# Altium integrated library Linear Technology Power Management Switching Regulator LTC1174-LTC3901.IntLib: 2647 symbols (part 9 of 364)
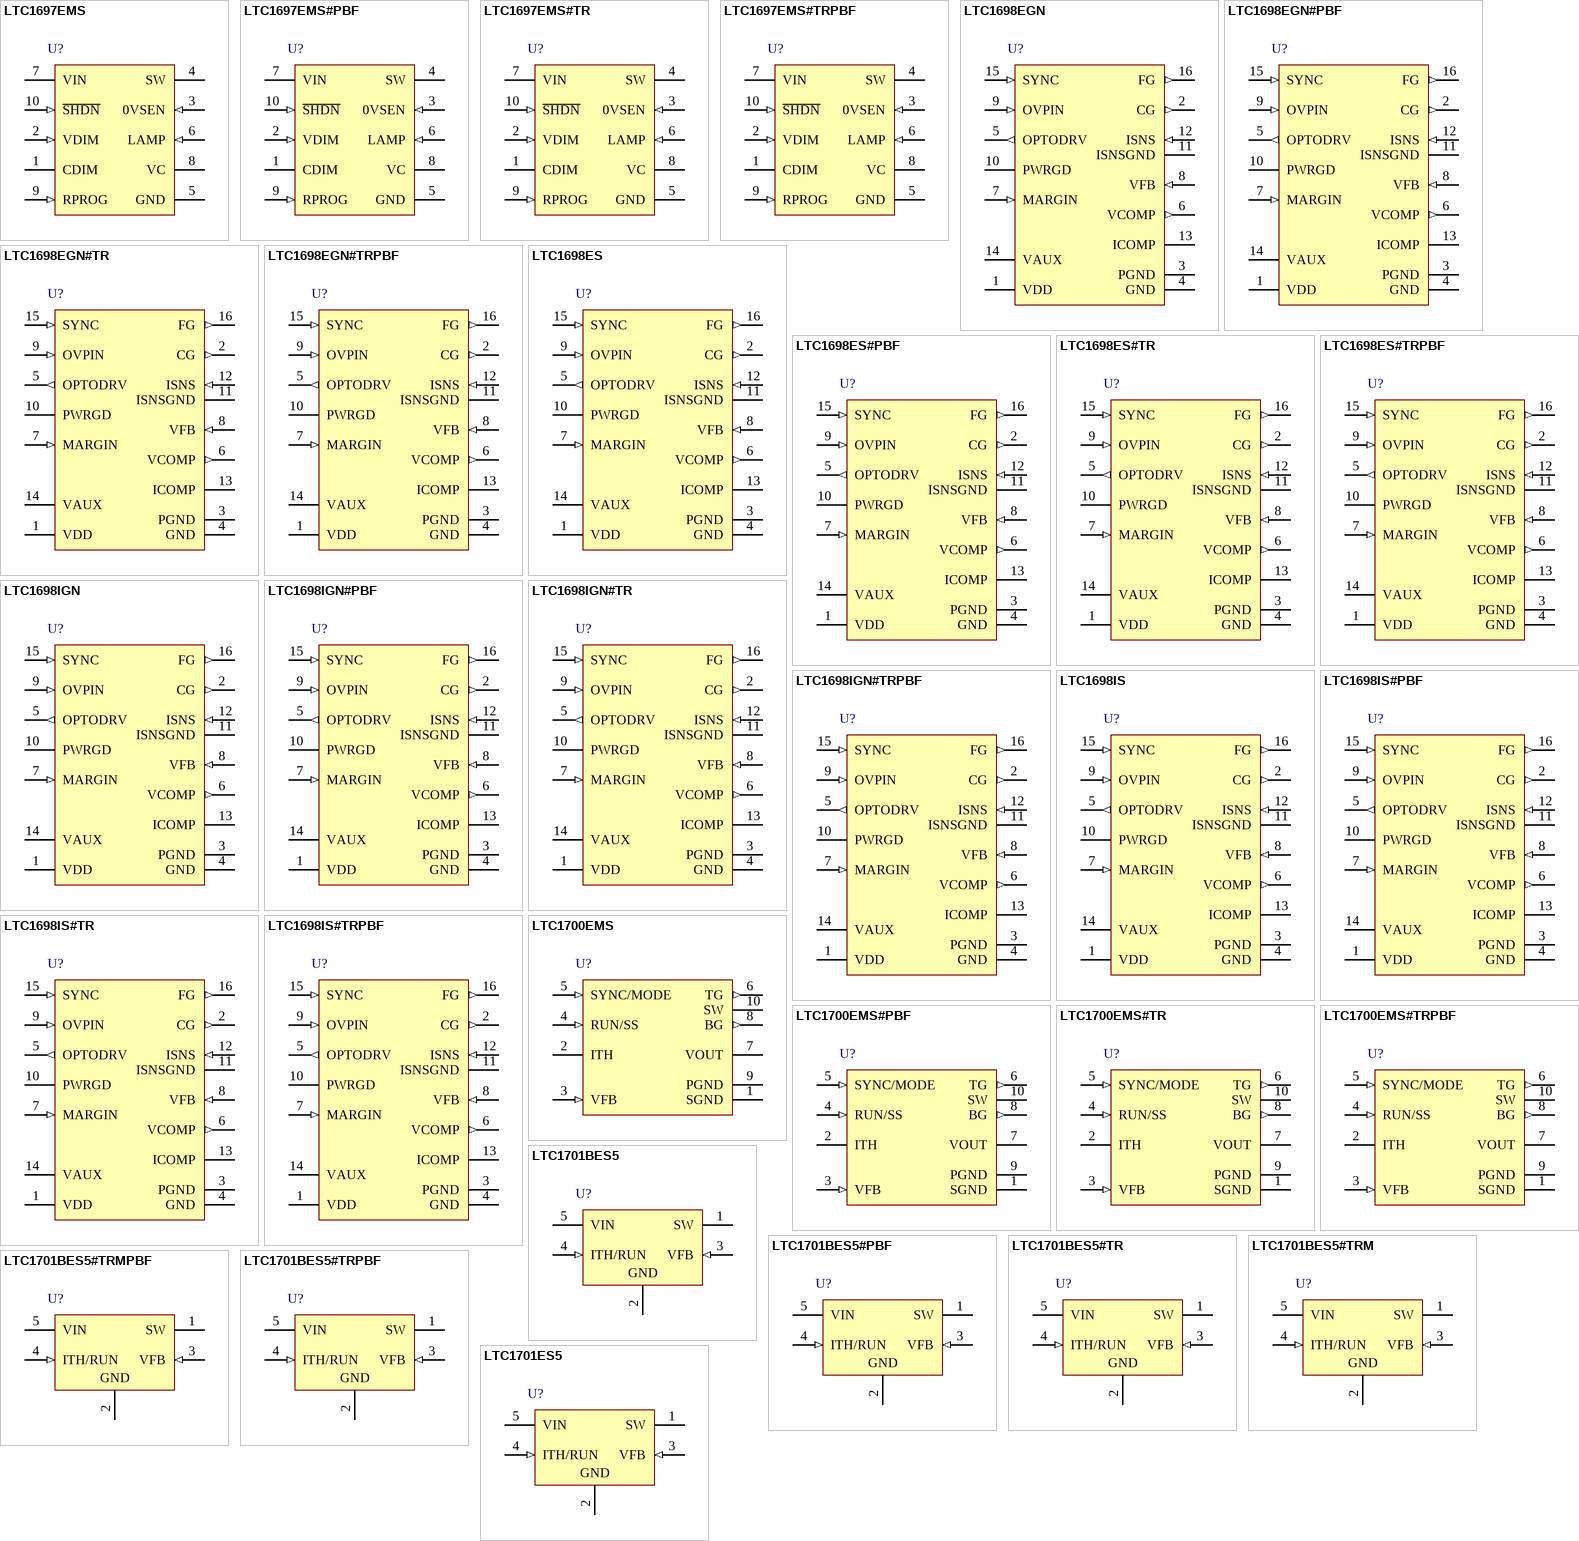
[diagram p120: symbols LTC1697EMS to LTC1701ES5]

## LTC1698EGN#PBF
designator U?
Secondary Synchronous Rectifier Controller MIN, 16-pin SOP (GN-16), -40 to 85 degC, Pb-Free; Manufacturer: Linear Technology; PartNumber: LTC1698EGN#PBF; Number of Outputs: 1; PackageVersion: Rev. B, 03/2012; PackageReference: GN-16; PackageDescription: 16-Pin Plastic SSOP, Body 4.9 x 3.9 mm, Pitch 0.635 mm; Supplier 1: Digi-Key; Supplier Part Number 1: LTC1698EGN#PBF-ND; RoHS: TRUE; Mounting Technology: Surface Mount; ComponentLink1Description: Manufacturer URL; ComponentLink1URL: http://www.linear.com/; ComponentLink2Description: Datasheet; ComponentLink2URL: http://cds.linear.com/docs/en/datasheet/1698f.pdf; ComponentLink3Description: Package Specification; ComponentLink3URL: http://cds.linear.com/docs/en/packaging/05081641_B_GN16.pdf
footprint LT-GN-16_N (SOP, 16-Leads, Body 5x4mm, Pitch 0.635mm, IPC Medium Density)
footprint LT-GN-16_L (SOP, 16-Leads, Body 5x4mm, Pitch 0.635mm, IPC High Density)
footprint LT-GN-16_M (SOP, 16-Leads, Body 5x4mm, Pitch 0.635mm, IPC Low Density)
pins: 1 VDD (power) "Power Supply Input. For isolated applications, a simple rectifier from the power transformer is used to power the chip. This pin powers the opto driver, the VAUX supply and the FG and CG drivers. An internal 5V regulator (See Datasheet)", 2 CG (out) "Catch Gate Driver. If SYNC slews positive, CG pulls high to drive an external N-channel MOSFET. CG draws power from the VDD pin and swings between VDD and PGND.", 3 PGND (power) "Power Ground. Connect PGND to a low impedance ground plane in close proximity to the ground terminal of the external current sensing resistor.", 4 GND (power) "Logic and Signal Ground. GND is referenced to the internal low power circuitry. Careful board layout techniques must be used to prevent corruption of signal ground reference. Connect GND and PGND together directly at the (See Datasheet)", 5 OPTODRV (out) "Optocoupler Driver Output. This pin drives a ground referenced optocoupler through an external resistor. If VFB is low, OPTODRV pulls low. If VFB is high, OPTODRV pulls high. This optocoupler driver has a DC gain of 5. (See Datasheet)", 6 VCOMP (out) "Error Amplifier Output. This error amplifier is able to drive more than 2kohm and 100pF of load. The internal diode connected from VFB to VCOMP reduces OPTODRV recovery time under start-up conditions.", 7 MARGIN (in) "Current Input to Adjust the Output Voltage Linearly. The MARGIN pin connects to an internal 16.5k resistor. The other end of this resistor is regulated to 1.65V. Connecting MARGIN to a 3.3V logic supply sources 100uA of (See Datasheet)", 8 VFB (in) "Feedback Voltage. VFB senses the regulated output voltage through an external resistor divider. The VFB pin is servoed to the reference voltage of 1.233V under closed-loop conditions. An RC network from VFB to VCOMP (See Datasheet)", 9 OVPIN (in) "Overvoltage Input. OVPIN is a high impedance input to an internal comparator. The threshold of this comparator is set to 1.233V. If the OVPIN potential is higher than the threshold voltage, OPTODRV pulls high immediately. (See Datasheet)", 10 PWRGD (oc) "Power Good Output. This is an opendrain output. PWRGD floats if VFB is above 94% of the nominal value for more than 2ms. PWRGD pulls low if VFB is below 94% of the nominal value for more than 1ms. The PWRGD threshold is (See Datasheet)", 11 ISNSGND (power) "Current Sense Ground. Connect to the positive side of the sense resistor, normally grounded.", 12 ISNS (in) "Current Sense Input. Connect to the negative side of the sense resistor through an external RC lowpass filter. This pin normally sees a negative voltage, which is proportional to the average load current. If current limit is (See Datasheet)", 13 ICOMP "Current Amplifier Output. An RC network at this pin compensates the current limit feedback loop. Referencing the RC to VOUT controls output voltage overshoot on start-up. This pin can float if current limit loop compensation (See Datasheet)", 14 VAUX (power) "Auxiliary 3.3V Logic Supply. This pin requires a 0.1uF or greater bypass capacitor. This auxiliary power supply can power external devices and sources 10mA of current. Internal current limiting is provided.", 15 SYNC (in) "Drivers Synchronization Input. A negative voltage slew at SYNC forces FG to pull high and CG to pull low. A positive voltage slew at SYNC resets the FG pin and CG pulls high. If SYNC loses its synchronization signal for more (See Datasheet)", 16 FG (out) "Forward Gate Driver. If SYNC slews negative, FG goes high. FG draws power from VDD and swings between VDD and PGND."

## LTC1698EGN#TR
designator U?
Secondary Synchronous Rectifier Controller MIN, 16-pin SOP (GN-16), -40 to 85 degC, Tape and Reel; Manufacturer: Linear Technology; PartNumber: LTC1698EGN#TR; Number of Outputs: 1; PackageVersion: Rev. B, 03/2012; PackageReference: GN-16; PackageDescription: 16-Pin Plastic SSOP, Body 4.9 x 3.9 mm, Pitch 0.635 mm; Supplier 1: Digi-Key; Supplier Part Number 1: LTC1698EGNTR-ND; Packing: Tape and Reel; RoHS: FALSE; Mounting Technology: Surface Mount; ComponentLink1Description: Manufacturer URL; ComponentLink1URL: http://www.linear.com/; ComponentLink2Description: Datasheet; ComponentLink2URL: http://cds.linear.com/docs/en/datasheet/1698f.pdf; ComponentLink3Description: Package Specification; ComponentLink3URL: http://cds.linear.com/docs/en/packaging/05081641_B_GN16.pdf
footprint LT-GN-16_N (SOP, 16-Leads, Body 5x4mm, Pitch 0.635mm, IPC Medium Density)
footprint LT-GN-16_L (SOP, 16-Leads, Body 5x4mm, Pitch 0.635mm, IPC High Density)
footprint LT-GN-16_M (SOP, 16-Leads, Body 5x4mm, Pitch 0.635mm, IPC Low Density)
pins: 1 VDD (power) "Power Supply Input. For isolated applications, a simple rectifier from the power transformer is used to power the chip. This pin powers the opto driver, the VAUX supply and the FG and CG drivers. An internal 5V regulator (See Datasheet)", 2 CG (out) "Catch Gate Driver. If SYNC slews positive, CG pulls high to drive an external N-channel MOSFET. CG draws power from the VDD pin and swings between VDD and PGND.", 3 PGND (power) "Power Ground. Connect PGND to a low impedance ground plane in close proximity to the ground terminal of the external current sensing resistor.", 4 GND (power) "Logic and Signal Ground. GND is referenced to the internal low power circuitry. Careful board layout techniques must be used to prevent corruption of signal ground reference. Connect GND and PGND together directly at the (See Datasheet)", 5 OPTODRV (out) "Optocoupler Driver Output. This pin drives a ground referenced optocoupler through an external resistor. If VFB is low, OPTODRV pulls low. If VFB is high, OPTODRV pulls high. This optocoupler driver has a DC gain of 5. (See Datasheet)", 6 VCOMP (out) "Error Amplifier Output. This error amplifier is able to drive more than 2kohm and 100pF of load. The internal diode connected from VFB to VCOMP reduces OPTODRV recovery time under start-up conditions.", 7 MARGIN (in) "Current Input to Adjust the Output Voltage Linearly. The MARGIN pin connects to an internal 16.5k resistor. The other end of this resistor is regulated to 1.65V. Connecting MARGIN to a 3.3V logic supply sources 100uA of (See Datasheet)", 8 VFB (in) "Feedback Voltage. VFB senses the regulated output voltage through an external resistor divider. The VFB pin is servoed to the reference voltage of 1.233V under closed-loop conditions. An RC network from VFB to VCOMP (See Datasheet)", 9 OVPIN (in) "Overvoltage Input. OVPIN is a high impedance input to an internal comparator. The threshold of this comparator is set to 1.233V. If the OVPIN potential is higher than the threshold voltage, OPTODRV pulls high immediately. (See Datasheet)", 10 PWRGD (oc) "Power Good Output. This is an opendrain output. PWRGD floats if VFB is above 94% of the nominal value for more than 2ms. PWRGD pulls low if VFB is below 94% of the nominal value for more than 1ms. The PWRGD threshold is (See Datasheet)", 11 ISNSGND (power) "Current Sense Ground. Connect to the positive side of the sense resistor, normally grounded.", 12 ISNS (in) "Current Sense Input. Connect to the negative side of the sense resistor through an external RC lowpass filter. This pin normally sees a negative voltage, which is proportional to the average load current. If current limit is (See Datasheet)", 13 ICOMP "Current Amplifier Output. An RC network at this pin compensates the current limit feedback loop. Referencing the RC to VOUT controls output voltage overshoot on start-up. This pin can float if current limit loop compensation (See Datasheet)", 14 VAUX (power) "Auxiliary 3.3V Logic Supply. This pin requires a 0.1uF or greater bypass capacitor. This auxiliary power supply can power external devices and sources 10mA of current. Internal current limiting is provided.", 15 SYNC (in) "Drivers Synchronization Input. A negative voltage slew at SYNC forces FG to pull high and CG to pull low. A positive voltage slew at SYNC resets the FG pin and CG pulls high. If SYNC loses its synchronization signal for more (See Datasheet)", 16 FG (out) "Forward Gate Driver. If SYNC slews negative, FG goes high. FG draws power from VDD and swings between VDD and PGND."

## LTC1698EGN#TRPBF
designator U?
Secondary Synchronous Rectifier Controller MIN, 16-pin SOP (GN-16), -40 to 85 degC, Pb-Free, Tape and Reel; Manufacturer: Linear Technology; PartNumber: LTC1698EGN#TRPBF; Number of Outputs: 1; PackageVersion: Rev. B, 03/2012; PackageReference: GN-16; PackageDescription: 16-Pin Plastic SSOP, Body 4.9 x 3.9 mm, Pitch 0.635 mm; Supplier 1: Digi-Key; Supplier Part Number 1: LTC1698EGN#TRPBF-ND; Packing: Tape and Reel; RoHS: TRUE; Mounting Technology: Surface Mount; ComponentLink1Description: Manufacturer URL; ComponentLink1URL: http://www.linear.com/; ComponentLink2Description: Datasheet; ComponentLink2URL: http://cds.linear.com/docs/en/datasheet/1698f.pdf; ComponentLink3Description: Package Specification; ComponentLink3URL: http://cds.linear.com/docs/en/packaging/05081641_B_GN16.pdf
footprint LT-GN-16_N (SOP, 16-Leads, Body 5x4mm, Pitch 0.635mm, IPC Medium Density)
footprint LT-GN-16_L (SOP, 16-Leads, Body 5x4mm, Pitch 0.635mm, IPC High Density)
footprint LT-GN-16_M (SOP, 16-Leads, Body 5x4mm, Pitch 0.635mm, IPC Low Density)
pins: 1 VDD (power) "Power Supply Input. For isolated applications, a simple rectifier from the power transformer is used to power the chip. This pin powers the opto driver, the VAUX supply and the FG and CG drivers. An internal 5V regulator (See Datasheet)", 2 CG (out) "Catch Gate Driver. If SYNC slews positive, CG pulls high to drive an external N-channel MOSFET. CG draws power from the VDD pin and swings between VDD and PGND.", 3 PGND (power) "Power Ground. Connect PGND to a low impedance ground plane in close proximity to the ground terminal of the external current sensing resistor.", 4 GND (power) "Logic and Signal Ground. GND is referenced to the internal low power circuitry. Careful board layout techniques must be used to prevent corruption of signal ground reference. Connect GND and PGND together directly at the (See Datasheet)", 5 OPTODRV (out) "Optocoupler Driver Output. This pin drives a ground referenced optocoupler through an external resistor. If VFB is low, OPTODRV pulls low. If VFB is high, OPTODRV pulls high. This optocoupler driver has a DC gain of 5. (See Datasheet)", 6 VCOMP (out) "Error Amplifier Output. This error amplifier is able to drive more than 2kohm and 100pF of load. The internal diode connected from VFB to VCOMP reduces OPTODRV recovery time under start-up conditions.", 7 MARGIN (in) "Current Input to Adjust the Output Voltage Linearly. The MARGIN pin connects to an internal 16.5k resistor. The other end of this resistor is regulated to 1.65V. Connecting MARGIN to a 3.3V logic supply sources 100uA of (See Datasheet)", 8 VFB (in) "Feedback Voltage. VFB senses the regulated output voltage through an external resistor divider. The VFB pin is servoed to the reference voltage of 1.233V under closed-loop conditions. An RC network from VFB to VCOMP (See Datasheet)", 9 OVPIN (in) "Overvoltage Input. OVPIN is a high impedance input to an internal comparator. The threshold of this comparator is set to 1.233V. If the OVPIN potential is higher than the threshold voltage, OPTODRV pulls high immediately. (See Datasheet)", 10 PWRGD (oc) "Power Good Output. This is an opendrain output. PWRGD floats if VFB is above 94% of the nominal value for more than 2ms. PWRGD pulls low if VFB is below 94% of the nominal value for more than 1ms. The PWRGD threshold is (See Datasheet)", 11 ISNSGND (power) "Current Sense Ground. Connect to the positive side of the sense resistor, normally grounded.", 12 ISNS (in) "Current Sense Input. Connect to the negative side of the sense resistor through an external RC lowpass filter. This pin normally sees a negative voltage, which is proportional to the average load current. If current limit is (See Datasheet)", 13 ICOMP "Current Amplifier Output. An RC network at this pin compensates the current limit feedback loop. Referencing the RC to VOUT controls output voltage overshoot on start-up. This pin can float if current limit loop compensation (See Datasheet)", 14 VAUX (power) "Auxiliary 3.3V Logic Supply. This pin requires a 0.1uF or greater bypass capacitor. This auxiliary power supply can power external devices and sources 10mA of current. Internal current limiting is provided.", 15 SYNC (in) "Drivers Synchronization Input. A negative voltage slew at SYNC forces FG to pull high and CG to pull low. A positive voltage slew at SYNC resets the FG pin and CG pulls high. If SYNC loses its synchronization signal for more (See Datasheet)", 16 FG (out) "Forward Gate Driver. If SYNC slews negative, FG goes high. FG draws power from VDD and swings between VDD and PGND."

## LTC1698ES
designator U?
Secondary Synchronous Rectifier Controller MIN, 16-pin SOP (S-16), -40 to 85 degC; Manufacturer: Linear Technology; PartNumber: LTC1698ES; Number of Outputs: 1; PackageVersion: Rev. G, 05/2012; PackageReference: S-16; PackageDescription: 16-Pin Plastic Small Outline, Body 9.9 x 3.9 mm, Pitch 1.27 mm; Supplier 1: Digi-Key; Supplier Part Number 1: LTC1698ES-ND; RoHS: FALSE; Mounting Technology: Surface Mount; ComponentLink1Description: Manufacturer URL; ComponentLink1URL: http://www.linear.com/; ComponentLink2Description: Datasheet; ComponentLink2URL: http://cds.linear.com/docs/en/datasheet/1698f.pdf; ComponentLink3Description: Package Specification; ComponentLink3URL: http://cds.linear.com/docs/en/packaging/S16%2005-08-1610%20Rev%20G.pdf
footprint LT-S-16_N (SOP, 16-Leads, Body 10x4mm, Pitch 1.27mm, IPC Medium Density)
footprint LT-S-16_L (SOP, 16-Leads, Body 10x4mm, Pitch 1.27mm, IPC High Density)
footprint LT-S-16_M (SOP, 16-Leads, Body 10x4mm, Pitch 1.27mm, IPC Low Density)
pins: 1 VDD (power) "Power Supply Input. For isolated applications, a simple rectifier from the power transformer is used to power the chip. This pin powers the opto driver, the VAUX supply and the FG and CG drivers. An internal 5V regulator (See Datasheet)", 2 CG (out) "Catch Gate Driver. If SYNC slews positive, CG pulls high to drive an external N-channel MOSFET. CG draws power from the VDD pin and swings between VDD and PGND.", 3 PGND (power) "Power Ground. Connect PGND to a low impedance ground plane in close proximity to the ground terminal of the external current sensing resistor.", 4 GND (power) "Logic and Signal Ground. GND is referenced to the internal low power circuitry. Careful board layout techniques must be used to prevent corruption of signal ground reference. Connect GND and PGND together directly at the (See Datasheet)", 5 OPTODRV (out) "Optocoupler Driver Output. This pin drives a ground referenced optocoupler through an external resistor. If VFB is low, OPTODRV pulls low. If VFB is high, OPTODRV pulls high. This optocoupler driver has a DC gain of 5. (See Datasheet)", 6 VCOMP (out) "Error Amplifier Output. This error amplifier is able to drive more than 2kohm and 100pF of load. The internal diode connected from VFB to VCOMP reduces OPTODRV recovery time under start-up conditions.", 7 MARGIN (in) "Current Input to Adjust the Output Voltage Linearly. The MARGIN pin connects to an internal 16.5k resistor. The other end of this resistor is regulated to 1.65V. Connecting MARGIN to a 3.3V logic supply sources 100uA of (See Datasheet)", 8 VFB (in) "Feedback Voltage. VFB senses the regulated output voltage through an external resistor divider. The VFB pin is servoed to the reference voltage of 1.233V under closed-loop conditions. An RC network from VFB to VCOMP (See Datasheet)", 9 OVPIN (in) "Overvoltage Input. OVPIN is a high impedance input to an internal comparator. The threshold of this comparator is set to 1.233V. If the OVPIN potential is higher than the threshold voltage, OPTODRV pulls high immediately. (See Datasheet)", 10 PWRGD (oc) "Power Good Output. This is an opendrain output. PWRGD floats if VFB is above 94% of the nominal value for more than 2ms. PWRGD pulls low if VFB is below 94% of the nominal value for more than 1ms. The PWRGD threshold is (See Datasheet)", 11 ISNSGND (power) "Current Sense Ground. Connect to the positive side of the sense resistor, normally grounded.", 12 ISNS (in) "Current Sense Input. Connect to the negative side of the sense resistor through an external RC lowpass filter. This pin normally sees a negative voltage, which is proportional to the average load current. If current limit is (See Datasheet)", 13 ICOMP "Current Amplifier Output. An RC network at this pin compensates the current limit feedback loop. Referencing the RC to VOUT controls output voltage overshoot on start-up. This pin can float if current limit loop compensation (See Datasheet)", 14 VAUX (power) "Auxiliary 3.3V Logic Supply. This pin requires a 0.1uF or greater bypass capacitor. This auxiliary power supply can power external devices and sources 10mA of current. Internal current limiting is provided.", 15 SYNC (in) "Drivers Synchronization Input. A negative voltage slew at SYNC forces FG to pull high and CG to pull low. A positive voltage slew at SYNC resets the FG pin and CG pulls high. If SYNC loses its synchronization signal for more (See Datasheet)", 16 FG (out) "Forward Gate Driver. If SYNC slews negative, FG goes high. FG draws power from VDD and swings between VDD and PGND."

## LTC1698ES#PBF
designator U?
Secondary Synchronous Rectifier Controller MIN, 16-pin SOP (S-16), -40 to 85 degC, Pb-Free; Manufacturer: Linear Technology; PartNumber: LTC1698ES#PBF; Number of Outputs: 1; PackageVersion: Rev. G, 05/2012; PackageReference: S-16; PackageDescription: 16-Pin Plastic Small Outline, Body 9.9 x 3.9 mm, Pitch 1.27 mm; Supplier 1: Digi-Key; Supplier Part Number 1: LTC1698ES#PBF-ND; Supplier 2: Newark; Supplier Part Number 2: 56M3286; RoHS: TRUE; Mounting Technology: Surface Mount; ComponentLink1Description: Manufacturer URL; ComponentLink1URL: http://www.linear.com/; ComponentLink2Description: Datasheet; ComponentLink2URL: http://cds.linear.com/docs/en/datasheet/1698f.pdf; ComponentLink3Description: Package Specification; ComponentLink3URL: http://cds.linear.com/docs/en/packaging/S16%2005-08-1610%20Rev%20G.pdf
footprint LT-S-16_N (SOP, 16-Leads, Body 10x4mm, Pitch 1.27mm, IPC Medium Density)
footprint LT-S-16_L (SOP, 16-Leads, Body 10x4mm, Pitch 1.27mm, IPC High Density)
footprint LT-S-16_M (SOP, 16-Leads, Body 10x4mm, Pitch 1.27mm, IPC Low Density)
pins: 1 VDD (power) "Power Supply Input. For isolated applications, a simple rectifier from the power transformer is used to power the chip. This pin powers the opto driver, the VAUX supply and the FG and CG drivers. An internal 5V regulator (See Datasheet)", 2 CG (out) "Catch Gate Driver. If SYNC slews positive, CG pulls high to drive an external N-channel MOSFET. CG draws power from the VDD pin and swings between VDD and PGND.", 3 PGND (power) "Power Ground. Connect PGND to a low impedance ground plane in close proximity to the ground terminal of the external current sensing resistor.", 4 GND (power) "Logic and Signal Ground. GND is referenced to the internal low power circuitry. Careful board layout techniques must be used to prevent corruption of signal ground reference. Connect GND and PGND together directly at the (See Datasheet)", 5 OPTODRV (out) "Optocoupler Driver Output. This pin drives a ground referenced optocoupler through an external resistor. If VFB is low, OPTODRV pulls low. If VFB is high, OPTODRV pulls high. This optocoupler driver has a DC gain of 5. (See Datasheet)", 6 VCOMP (out) "Error Amplifier Output. This error amplifier is able to drive more than 2kohm and 100pF of load. The internal diode connected from VFB to VCOMP reduces OPTODRV recovery time under start-up conditions.", 7 MARGIN (in) "Current Input to Adjust the Output Voltage Linearly. The MARGIN pin connects to an internal 16.5k resistor. The other end of this resistor is regulated to 1.65V. Connecting MARGIN to a 3.3V logic supply sources 100uA of (See Datasheet)", 8 VFB (in) "Feedback Voltage. VFB senses the regulated output voltage through an external resistor divider. The VFB pin is servoed to the reference voltage of 1.233V under closed-loop conditions. An RC network from VFB to VCOMP (See Datasheet)", 9 OVPIN (in) "Overvoltage Input. OVPIN is a high impedance input to an internal comparator. The threshold of this comparator is set to 1.233V. If the OVPIN potential is higher than the threshold voltage, OPTODRV pulls high immediately. (See Datasheet)", 10 PWRGD (oc) "Power Good Output. This is an opendrain output. PWRGD floats if VFB is above 94% of the nominal value for more than 2ms. PWRGD pulls low if VFB is below 94% of the nominal value for more than 1ms. The PWRGD threshold is (See Datasheet)", 11 ISNSGND (power) "Current Sense Ground. Connect to the positive side of the sense resistor, normally grounded.", 12 ISNS (in) "Current Sense Input. Connect to the negative side of the sense resistor through an external RC lowpass filter. This pin normally sees a negative voltage, which is proportional to the average load current. If current limit is (See Datasheet)", 13 ICOMP "Current Amplifier Output. An RC network at this pin compensates the current limit feedback loop. Referencing the RC to VOUT controls output voltage overshoot on start-up. This pin can float if current limit loop compensation (See Datasheet)", 14 VAUX (power) "Auxiliary 3.3V Logic Supply. This pin requires a 0.1uF or greater bypass capacitor. This auxiliary power supply can power external devices and sources 10mA of current. Internal current limiting is provided.", 15 SYNC (in) "Drivers Synchronization Input. A negative voltage slew at SYNC forces FG to pull high and CG to pull low. A positive voltage slew at SYNC resets the FG pin and CG pulls high. If SYNC loses its synchronization signal for more (See Datasheet)", 16 FG (out) "Forward Gate Driver. If SYNC slews negative, FG goes high. FG draws power from VDD and swings between VDD and PGND."

## LTC1698ES#TR
designator U?
Secondary Synchronous Rectifier Controller MIN, 16-pin SOP (S-16), -40 to 85 degC, Tape and Reel; Manufacturer: Linear Technology; PartNumber: LTC1698ES#TR; Number of Outputs: 1; PackageVersion: Rev. G, 05/2012; PackageReference: S-16; PackageDescription: 16-Pin Plastic Small Outline, Body 9.9 x 3.9 mm, Pitch 1.27 mm; Supplier 1: Digi-Key; Supplier Part Number 1: LTC1698ESTR-ND; Packing: Tape and Reel; RoHS: FALSE; Mounting Technology: Surface Mount; ComponentLink1Description: Manufacturer URL; ComponentLink1URL: http://www.linear.com/; ComponentLink2Description: Datasheet; ComponentLink2URL: http://cds.linear.com/docs/en/datasheet/1698f.pdf; ComponentLink3Description: Package Specification; ComponentLink3URL: http://cds.linear.com/docs/en/packaging/S16%2005-08-1610%20Rev%20G.pdf
footprint LT-S-16_N (SOP, 16-Leads, Body 10x4mm, Pitch 1.27mm, IPC Medium Density)
footprint LT-S-16_L (SOP, 16-Leads, Body 10x4mm, Pitch 1.27mm, IPC High Density)
footprint LT-S-16_M (SOP, 16-Leads, Body 10x4mm, Pitch 1.27mm, IPC Low Density)
pins: 1 VDD (power) "Power Supply Input. For isolated applications, a simple rectifier from the power transformer is used to power the chip. This pin powers the opto driver, the VAUX supply and the FG and CG drivers. An internal 5V regulator (See Datasheet)", 2 CG (out) "Catch Gate Driver. If SYNC slews positive, CG pulls high to drive an external N-channel MOSFET. CG draws power from the VDD pin and swings between VDD and PGND.", 3 PGND (power) "Power Ground. Connect PGND to a low impedance ground plane in close proximity to the ground terminal of the external current sensing resistor.", 4 GND (power) "Logic and Signal Ground. GND is referenced to the internal low power circuitry. Careful board layout techniques must be used to prevent corruption of signal ground reference. Connect GND and PGND together directly at the (See Datasheet)", 5 OPTODRV (out) "Optocoupler Driver Output. This pin drives a ground referenced optocoupler through an external resistor. If VFB is low, OPTODRV pulls low. If VFB is high, OPTODRV pulls high. This optocoupler driver has a DC gain of 5. (See Datasheet)", 6 VCOMP (out) "Error Amplifier Output. This error amplifier is able to drive more than 2kohm and 100pF of load. The internal diode connected from VFB to VCOMP reduces OPTODRV recovery time under start-up conditions.", 7 MARGIN (in) "Current Input to Adjust the Output Voltage Linearly. The MARGIN pin connects to an internal 16.5k resistor. The other end of this resistor is regulated to 1.65V. Connecting MARGIN to a 3.3V logic supply sources 100uA of (See Datasheet)", 8 VFB (in) "Feedback Voltage. VFB senses the regulated output voltage through an external resistor divider. The VFB pin is servoed to the reference voltage of 1.233V under closed-loop conditions. An RC network from VFB to VCOMP (See Datasheet)", 9 OVPIN (in) "Overvoltage Input. OVPIN is a high impedance input to an internal comparator. The threshold of this comparator is set to 1.233V. If the OVPIN potential is higher than the threshold voltage, OPTODRV pulls high immediately. (See Datasheet)", 10 PWRGD (oc) "Power Good Output. This is an opendrain output. PWRGD floats if VFB is above 94% of the nominal value for more than 2ms. PWRGD pulls low if VFB is below 94% of the nominal value for more than 1ms. The PWRGD threshold is (See Datasheet)", 11 ISNSGND (power) "Current Sense Ground. Connect to the positive side of the sense resistor, normally grounded.", 12 ISNS (in) "Current Sense Input. Connect to the negative side of the sense resistor through an external RC lowpass filter. This pin normally sees a negative voltage, which is proportional to the average load current. If current limit is (See Datasheet)", 13 ICOMP "Current Amplifier Output. An RC network at this pin compensates the current limit feedback loop. Referencing the RC to VOUT controls output voltage overshoot on start-up. This pin can float if current limit loop compensation (See Datasheet)", 14 VAUX (power) "Auxiliary 3.3V Logic Supply. This pin requires a 0.1uF or greater bypass capacitor. This auxiliary power supply can power external devices and sources 10mA of current. Internal current limiting is provided.", 15 SYNC (in) "Drivers Synchronization Input. A negative voltage slew at SYNC forces FG to pull high and CG to pull low. A positive voltage slew at SYNC resets the FG pin and CG pulls high. If SYNC loses its synchronization signal for more (See Datasheet)", 16 FG (out) "Forward Gate Driver. If SYNC slews negative, FG goes high. FG draws power from VDD and swings between VDD and PGND."

## LTC1698ES#TRPBF
designator U?
Secondary Synchronous Rectifier Controller MIN, 16-pin SOP (S-16), -40 to 85 degC, Pb-Free, Tape and Reel; Manufacturer: Linear Technology; PartNumber: LTC1698ES#TRPBF; Number of Outputs: 1; PackageVersion: Rev. G, 05/2012; PackageReference: S-16; PackageDescription: 16-Pin Plastic Small Outline, Body 9.9 x 3.9 mm, Pitch 1.27 mm; Supplier 1: Digi-Key; Supplier Part Number 1: LTC1698ES#TRPBF-ND; Packing: Tape and Reel; RoHS: TRUE; Mounting Technology: Surface Mount; ComponentLink1Description: Manufacturer URL; ComponentLink1URL: http://www.linear.com/; ComponentLink2Description: Datasheet; ComponentLink2URL: http://cds.linear.com/docs/en/datasheet/1698f.pdf; ComponentLink3Description: Package Specification; ComponentLink3URL: http://cds.linear.com/docs/en/packaging/S16%2005-08-1610%20Rev%20G.pdf
footprint LT-S-16_N (SOP, 16-Leads, Body 10x4mm, Pitch 1.27mm, IPC Medium Density)
footprint LT-S-16_L (SOP, 16-Leads, Body 10x4mm, Pitch 1.27mm, IPC High Density)
footprint LT-S-16_M (SOP, 16-Leads, Body 10x4mm, Pitch 1.27mm, IPC Low Density)
pins: 1 VDD (power) "Power Supply Input. For isolated applications, a simple rectifier from the power transformer is used to power the chip. This pin powers the opto driver, the VAUX supply and the FG and CG drivers. An internal 5V regulator (See Datasheet)", 2 CG (out) "Catch Gate Driver. If SYNC slews positive, CG pulls high to drive an external N-channel MOSFET. CG draws power from the VDD pin and swings between VDD and PGND.", 3 PGND (power) "Power Ground. Connect PGND to a low impedance ground plane in close proximity to the ground terminal of the external current sensing resistor.", 4 GND (power) "Logic and Signal Ground. GND is referenced to the internal low power circuitry. Careful board layout techniques must be used to prevent corruption of signal ground reference. Connect GND and PGND together directly at the (See Datasheet)", 5 OPTODRV (out) "Optocoupler Driver Output. This pin drives a ground referenced optocoupler through an external resistor. If VFB is low, OPTODRV pulls low. If VFB is high, OPTODRV pulls high. This optocoupler driver has a DC gain of 5. (See Datasheet)", 6 VCOMP (out) "Error Amplifier Output. This error amplifier is able to drive more than 2kohm and 100pF of load. The internal diode connected from VFB to VCOMP reduces OPTODRV recovery time under start-up conditions.", 7 MARGIN (in) "Current Input to Adjust the Output Voltage Linearly. The MARGIN pin connects to an internal 16.5k resistor. The other end of this resistor is regulated to 1.65V. Connecting MARGIN to a 3.3V logic supply sources 100uA of (See Datasheet)", 8 VFB (in) "Feedback Voltage. VFB senses the regulated output voltage through an external resistor divider. The VFB pin is servoed to the reference voltage of 1.233V under closed-loop conditions. An RC network from VFB to VCOMP (See Datasheet)", 9 OVPIN (in) "Overvoltage Input. OVPIN is a high impedance input to an internal comparator. The threshold of this comparator is set to 1.233V. If the OVPIN potential is higher than the threshold voltage, OPTODRV pulls high immediately. (See Datasheet)", 10 PWRGD (oc) "Power Good Output. This is an opendrain output. PWRGD floats if VFB is above 94% of the nominal value for more than 2ms. PWRGD pulls low if VFB is below 94% of the nominal value for more than 1ms. The PWRGD threshold is (See Datasheet)", 11 ISNSGND (power) "Current Sense Ground. Connect to the positive side of the sense resistor, normally grounded.", 12 ISNS (in) "Current Sense Input. Connect to the negative side of the sense resistor through an external RC lowpass filter. This pin normally sees a negative voltage, which is proportional to the average load current. If current limit is (See Datasheet)", 13 ICOMP "Current Amplifier Output. An RC network at this pin compensates the current limit feedback loop. Referencing the RC to VOUT controls output voltage overshoot on start-up. This pin can float if current limit loop compensation (See Datasheet)", 14 VAUX (power) "Auxiliary 3.3V Logic Supply. This pin requires a 0.1uF or greater bypass capacitor. This auxiliary power supply can power external devices and sources 10mA of current. Internal current limiting is provided.", 15 SYNC (in) "Drivers Synchronization Input. A negative voltage slew at SYNC forces FG to pull high and CG to pull low. A positive voltage slew at SYNC resets the FG pin and CG pulls high. If SYNC loses its synchronization signal for more (See Datasheet)", 16 FG (out) "Forward Gate Driver. If SYNC slews negative, FG goes high. FG draws power from VDD and swings between VDD and PGND."

## LTC1698IGN
designator U?
Secondary Synchronous Rectifier Controller MIN, 16-pin SOP (GN-16), -40 to 85 degC; Manufacturer: Linear Technology; PartNumber: LTC1698IGN; Number of Outputs: 1; PackageVersion: Rev. B, 03/2012; PackageReference: GN-16; PackageDescription: 16-Pin Plastic SSOP, Body 4.9 x 3.9 mm, Pitch 0.635 mm; Supplier 1: Digi-Key; Supplier Part Number 1: LTC1698IGN-ND; RoHS: FALSE; Mounting Technology: Surface Mount; ComponentLink1Description: Manufacturer URL; ComponentLink1URL: http://www.linear.com/; ComponentLink2Description: Datasheet; ComponentLink2URL: http://cds.linear.com/docs/en/datasheet/1698f.pdf; ComponentLink3Description: Package Specification; ComponentLink3URL: http://cds.linear.com/docs/en/packaging/05081641_B_GN16.pdf
footprint LT-GN-16_N (SOP, 16-Leads, Body 5x4mm, Pitch 0.635mm, IPC Medium Density)
footprint LT-GN-16_L (SOP, 16-Leads, Body 5x4mm, Pitch 0.635mm, IPC High Density)
footprint LT-GN-16_M (SOP, 16-Leads, Body 5x4mm, Pitch 0.635mm, IPC Low Density)
pins: 1 VDD (power) "Power Supply Input. For isolated applications, a simple rectifier from the power transformer is used to power the chip. This pin powers the opto driver, the VAUX supply and the FG and CG drivers. An internal 5V regulator (See Datasheet)", 2 CG (out) "Catch Gate Driver. If SYNC slews positive, CG pulls high to drive an external N-channel MOSFET. CG draws power from the VDD pin and swings between VDD and PGND.", 3 PGND (power) "Power Ground. Connect PGND to a low impedance ground plane in close proximity to the ground terminal of the external current sensing resistor.", 4 GND (power) "Logic and Signal Ground. GND is referenced to the internal low power circuitry. Careful board layout techniques must be used to prevent corruption of signal ground reference. Connect GND and PGND together directly at the (See Datasheet)", 5 OPTODRV (out) "Optocoupler Driver Output. This pin drives a ground referenced optocoupler through an external resistor. If VFB is low, OPTODRV pulls low. If VFB is high, OPTODRV pulls high. This optocoupler driver has a DC gain of 5. (See Datasheet)", 6 VCOMP (out) "Error Amplifier Output. This error amplifier is able to drive more than 2kohm and 100pF of load. The internal diode connected from VFB to VCOMP reduces OPTODRV recovery time under start-up conditions.", 7 MARGIN (in) "Current Input to Adjust the Output Voltage Linearly. The MARGIN pin connects to an internal 16.5k resistor. The other end of this resistor is regulated to 1.65V. Connecting MARGIN to a 3.3V logic supply sources 100uA of (See Datasheet)", 8 VFB (in) "Feedback Voltage. VFB senses the regulated output voltage through an external resistor divider. The VFB pin is servoed to the reference voltage of 1.233V under closed-loop conditions. An RC network from VFB to VCOMP (See Datasheet)", 9 OVPIN (in) "Overvoltage Input. OVPIN is a high impedance input to an internal comparator. The threshold of this comparator is set to 1.233V. If the OVPIN potential is higher than the threshold voltage, OPTODRV pulls high immediately. (See Datasheet)", 10 PWRGD (oc) "Power Good Output. This is an opendrain output. PWRGD floats if VFB is above 94% of the nominal value for more than 2ms. PWRGD pulls low if VFB is below 94% of the nominal value for more than 1ms. The PWRGD threshold is (See Datasheet)", 11 ISNSGND (power) "Current Sense Ground. Connect to the positive side of the sense resistor, normally grounded.", 12 ISNS (in) "Current Sense Input. Connect to the negative side of the sense resistor through an external RC lowpass filter. This pin normally sees a negative voltage, which is proportional to the average load current. If current limit is (See Datasheet)", 13 ICOMP "Current Amplifier Output. An RC network at this pin compensates the current limit feedback loop. Referencing the RC to VOUT controls output voltage overshoot on start-up. This pin can float if current limit loop compensation (See Datasheet)", 14 VAUX (power) "Auxiliary 3.3V Logic Supply. This pin requires a 0.1uF or greater bypass capacitor. This auxiliary power supply can power external devices and sources 10mA of current. Internal current limiting is provided.", 15 SYNC (in) "Drivers Synchronization Input. A negative voltage slew at SYNC forces FG to pull high and CG to pull low. A positive voltage slew at SYNC resets the FG pin and CG pulls high. If SYNC loses its synchronization signal for more (See Datasheet)", 16 FG (out) "Forward Gate Driver. If SYNC slews negative, FG goes high. FG draws power from VDD and swings between VDD and PGND."

## LTC1698IGN#PBF
designator U?
Secondary Synchronous Rectifier Controller MIN, 16-pin SOP (GN-16), -40 to 85 degC, Pb-Free; Manufacturer: Linear Technology; PartNumber: LTC1698IGN#PBF; Number of Outputs: 1; PackageVersion: Rev. B, 03/2012; PackageReference: GN-16; PackageDescription: 16-Pin Plastic SSOP, Body 4.9 x 3.9 mm, Pitch 0.635 mm; Supplier 1: Digi-Key; Supplier Part Number 1: LTC1698IGN#PBF-ND; Supplier 2: Farnell; Supplier Part Number 2: 2295001; Supplier 3: Newark; Supplier Part Number 3: 56M3290; RoHS: TRUE; Mounting Technology: Surface Mount; ComponentLink1Description: Manufacturer URL; ComponentLink1URL: http://www.linear.com/; ComponentLink2Description: Datasheet; ComponentLink2URL: http://cds.linear.com/docs/en/datasheet/1698f.pdf; ComponentLink3Description: Package Specification; ComponentLink3URL: http://cds.linear.com/docs/en/packaging/05081641_B_GN16.pdf
footprint LT-GN-16_N (SOP, 16-Leads, Body 5x4mm, Pitch 0.635mm, IPC Medium Density)
footprint LT-GN-16_L (SOP, 16-Leads, Body 5x4mm, Pitch 0.635mm, IPC High Density)
footprint LT-GN-16_M (SOP, 16-Leads, Body 5x4mm, Pitch 0.635mm, IPC Low Density)
pins: 1 VDD (power) "Power Supply Input. For isolated applications, a simple rectifier from the power transformer is used to power the chip. This pin powers the opto driver, the VAUX supply and the FG and CG drivers. An internal 5V regulator (See Datasheet)", 2 CG (out) "Catch Gate Driver. If SYNC slews positive, CG pulls high to drive an external N-channel MOSFET. CG draws power from the VDD pin and swings between VDD and PGND.", 3 PGND (power) "Power Ground. Connect PGND to a low impedance ground plane in close proximity to the ground terminal of the external current sensing resistor.", 4 GND (power) "Logic and Signal Ground. GND is referenced to the internal low power circuitry. Careful board layout techniques must be used to prevent corruption of signal ground reference. Connect GND and PGND together directly at the (See Datasheet)", 5 OPTODRV (out) "Optocoupler Driver Output. This pin drives a ground referenced optocoupler through an external resistor. If VFB is low, OPTODRV pulls low. If VFB is high, OPTODRV pulls high. This optocoupler driver has a DC gain of 5. (See Datasheet)", 6 VCOMP (out) "Error Amplifier Output. This error amplifier is able to drive more than 2kohm and 100pF of load. The internal diode connected from VFB to VCOMP reduces OPTODRV recovery time under start-up conditions.", 7 MARGIN (in) "Current Input to Adjust the Output Voltage Linearly. The MARGIN pin connects to an internal 16.5k resistor. The other end of this resistor is regulated to 1.65V. Connecting MARGIN to a 3.3V logic supply sources 100uA of (See Datasheet)", 8 VFB (in) "Feedback Voltage. VFB senses the regulated output voltage through an external resistor divider. The VFB pin is servoed to the reference voltage of 1.233V under closed-loop conditions. An RC network from VFB to VCOMP (See Datasheet)", 9 OVPIN (in) "Overvoltage Input. OVPIN is a high impedance input to an internal comparator. The threshold of this comparator is set to 1.233V. If the OVPIN potential is higher than the threshold voltage, OPTODRV pulls high immediately. (See Datasheet)", 10 PWRGD (oc) "Power Good Output. This is an opendrain output. PWRGD floats if VFB is above 94% of the nominal value for more than 2ms. PWRGD pulls low if VFB is below 94% of the nominal value for more than 1ms. The PWRGD threshold is (See Datasheet)", 11 ISNSGND (power) "Current Sense Ground. Connect to the positive side of the sense resistor, normally grounded.", 12 ISNS (in) "Current Sense Input. Connect to the negative side of the sense resistor through an external RC lowpass filter. This pin normally sees a negative voltage, which is proportional to the average load current. If current limit is (See Datasheet)", 13 ICOMP "Current Amplifier Output. An RC network at this pin compensates the current limit feedback loop. Referencing the RC to VOUT controls output voltage overshoot on start-up. This pin can float if current limit loop compensation (See Datasheet)", 14 VAUX (power) "Auxiliary 3.3V Logic Supply. This pin requires a 0.1uF or greater bypass capacitor. This auxiliary power supply can power external devices and sources 10mA of current. Internal current limiting is provided.", 15 SYNC (in) "Drivers Synchronization Input. A negative voltage slew at SYNC forces FG to pull high and CG to pull low. A positive voltage slew at SYNC resets the FG pin and CG pulls high. If SYNC loses its synchronization signal for more (See Datasheet)", 16 FG (out) "Forward Gate Driver. If SYNC slews negative, FG goes high. FG draws power from VDD and swings between VDD and PGND."

## LTC1698IGN#TR
designator U?
Secondary Synchronous Rectifier Controller MIN, 16-pin SOP (GN-16), -40 to 85 degC, Tape and Reel; Manufacturer: Linear Technology; PartNumber: LTC1698IGN#TR; Number of Outputs: 1; PackageVersion: Rev. B, 03/2012; PackageReference: GN-16; PackageDescription: 16-Pin Plastic SSOP, Body 4.9 x 3.9 mm, Pitch 0.635 mm; Supplier 1: Digi-Key; Supplier Part Number 1: LTC1698IGNTR-ND; Supplier 2: Newark; Supplier Part Number 2: 56M3291; Packing: Tape and Reel; RoHS: FALSE; Mounting Technology: Surface Mount; ComponentLink1Description: Manufacturer URL; ComponentLink1URL: http://www.linear.com/; ComponentLink2Description: Datasheet; ComponentLink2URL: http://cds.linear.com/docs/en/datasheet/1698f.pdf; ComponentLink3Description: Package Specification; ComponentLink3URL: http://cds.linear.com/docs/en/packaging/05081641_B_GN16.pdf
footprint LT-GN-16_N (SOP, 16-Leads, Body 5x4mm, Pitch 0.635mm, IPC Medium Density)
footprint LT-GN-16_L (SOP, 16-Leads, Body 5x4mm, Pitch 0.635mm, IPC High Density)
footprint LT-GN-16_M (SOP, 16-Leads, Body 5x4mm, Pitch 0.635mm, IPC Low Density)
pins: 1 VDD (power) "Power Supply Input. For isolated applications, a simple rectifier from the power transformer is used to power the chip. This pin powers the opto driver, the VAUX supply and the FG and CG drivers. An internal 5V regulator (See Datasheet)", 2 CG (out) "Catch Gate Driver. If SYNC slews positive, CG pulls high to drive an external N-channel MOSFET. CG draws power from the VDD pin and swings between VDD and PGND.", 3 PGND (power) "Power Ground. Connect PGND to a low impedance ground plane in close proximity to the ground terminal of the external current sensing resistor.", 4 GND (power) "Logic and Signal Ground. GND is referenced to the internal low power circuitry. Careful board layout techniques must be used to prevent corruption of signal ground reference. Connect GND and PGND together directly at the (See Datasheet)", 5 OPTODRV (out) "Optocoupler Driver Output. This pin drives a ground referenced optocoupler through an external resistor. If VFB is low, OPTODRV pulls low. If VFB is high, OPTODRV pulls high. This optocoupler driver has a DC gain of 5. (See Datasheet)", 6 VCOMP (out) "Error Amplifier Output. This error amplifier is able to drive more than 2kohm and 100pF of load. The internal diode connected from VFB to VCOMP reduces OPTODRV recovery time under start-up conditions.", 7 MARGIN (in) "Current Input to Adjust the Output Voltage Linearly. The MARGIN pin connects to an internal 16.5k resistor. The other end of this resistor is regulated to 1.65V. Connecting MARGIN to a 3.3V logic supply sources 100uA of (See Datasheet)", 8 VFB (in) "Feedback Voltage. VFB senses the regulated output voltage through an external resistor divider. The VFB pin is servoed to the reference voltage of 1.233V under closed-loop conditions. An RC network from VFB to VCOMP (See Datasheet)", 9 OVPIN (in) "Overvoltage Input. OVPIN is a high impedance input to an internal comparator. The threshold of this comparator is set to 1.233V. If the OVPIN potential is higher than the threshold voltage, OPTODRV pulls high immediately. (See Datasheet)", 10 PWRGD (oc) "Power Good Output. This is an opendrain output. PWRGD floats if VFB is above 94% of the nominal value for more than 2ms. PWRGD pulls low if VFB is below 94% of the nominal value for more than 1ms. The PWRGD threshold is (See Datasheet)", 11 ISNSGND (power) "Current Sense Ground. Connect to the positive side of the sense resistor, normally grounded.", 12 ISNS (in) "Current Sense Input. Connect to the negative side of the sense resistor through an external RC lowpass filter. This pin normally sees a negative voltage, which is proportional to the average load current. If current limit is (See Datasheet)", 13 ICOMP "Current Amplifier Output. An RC network at this pin compensates the current limit feedback loop. Referencing the RC to VOUT controls output voltage overshoot on start-up. This pin can float if current limit loop compensation (See Datasheet)", 14 VAUX (power) "Auxiliary 3.3V Logic Supply. This pin requires a 0.1uF or greater bypass capacitor. This auxiliary power supply can power external devices and sources 10mA of current. Internal current limiting is provided.", 15 SYNC (in) "Drivers Synchronization Input. A negative voltage slew at SYNC forces FG to pull high and CG to pull low. A positive voltage slew at SYNC resets the FG pin and CG pulls high. If SYNC loses its synchronization signal for more (See Datasheet)", 16 FG (out) "Forward Gate Driver. If SYNC slews negative, FG goes high. FG draws power from VDD and swings between VDD and PGND."